# EAGLE library part TSW-S-36_S (library con-samtec-tsw)
HEADER
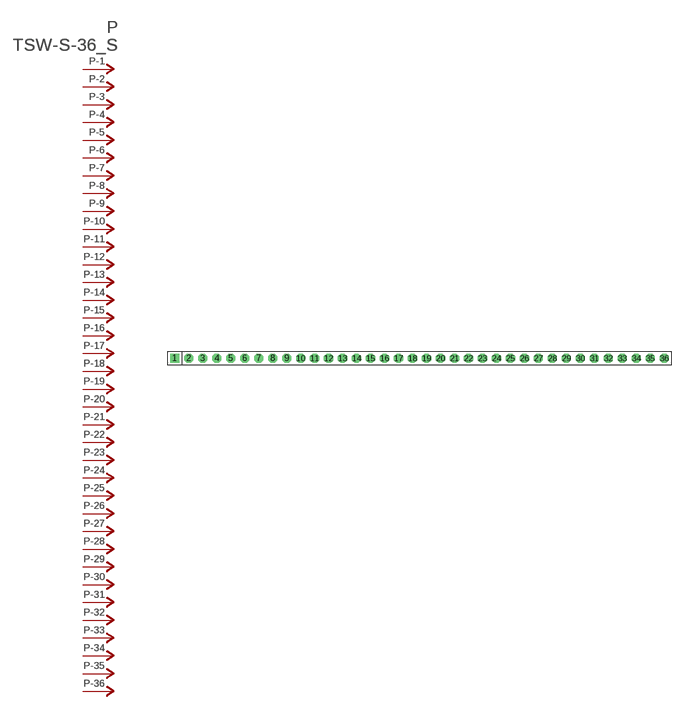
[diagram p75: symbol with the pads of TSW-S-36; footprint TSW-S-36]

Designator prefix P; gates -1=P-NV -2=P-N -3=P-N -4=P-N -5=P-N -6=P-N -7=P-N -8=P-N -9=P-N -10=P-N -11=P-N -12=P-N -13=P-N -14=P-N -15=P-N -16=P-N -17=P-N -18=P-N -19=P-N -20=P-N -21=P-N -22=P-N -23=P-N -24=P-N -25=P-N -26=P-N -27=P-N -28=P-N -29=P-N -30=P-N -31=P-N -32=P-N -33=P-N -34=P-N -35=P-N -36=P-N

## TSW-S-36_S  [TSW-S-36]
1  -1:P  pas
2  -2:P  pas
3  -3:P  pas
4  -4:P  pas
5  -5:P  pas
6  -6:P  pas
7  -7:P  pas
8  -8:P  pas
9  -9:P  pas
10  -10:P  pas
11  -11:P  pas
12  -12:P  pas
13  -13:P  pas
14  -14:P  pas
15  -15:P  pas
16  -16:P  pas
17  -17:P  pas
18  -18:P  pas
19  -19:P  pas
20  -20:P  pas
21  -21:P  pas
22  -22:P  pas
23  -23:P  pas
24  -24:P  pas
25  -25:P  pas
26  -26:P  pas
27  -27:P  pas
28  -28:P  pas
29  -29:P  pas
30  -30:P  pas
31  -31:P  pas
32  -32:P  pas
33  -33:P  pas
34  -34:P  pas
35  -35:P  pas
36  -36:P  pas

## Footprint TSW-S-36 (pad centres in mm)
HEADER
drill 0.914 pad 1.676 square: 1 -44.45,0
drill 0.914 pad 1.676 octagon: 2 -41.91,0; 3 -39.37,0; 4 -36.83,0; 5 -34.29,0; 6 -31.75,0; 7 -29.21,0; 8 -26.67,0; 9 -24.13,0; 10 -21.59,0; 11 -19.05,0; 12 -16.51,0; 13 -13.97,0; 14 -11.43,0; 15 -8.89,0; 16 -6.35,0; 17 -3.81,0; 18 -1.27,0; 19 1.27,0; 20 3.81,0; 21 6.35,0; 22 8.89,0; 23 11.43,0; 24 13.97,0; 25 16.51,0; 26 19.05,0; 27 21.59,0; 28 24.13,0; 29 26.67,0; 30 29.21,0; 31 31.75,0; 32 34.29,0; 33 36.83,0; 34 39.37,0; 35 41.91,0; 36 44.45,0